# EAGLE library part M25P16-VMF6P (library SamacSys_Parts)
M25P16-VMF6P, Serial-SPI NOR Flash Memory 16Mbit, 15ns, 2.7 3.6 V, 16-Pin, SOIC W Source: Datasheet <https://componentsearchengine.com/Datasheets/1/M25P16-VMF6P.pdf>
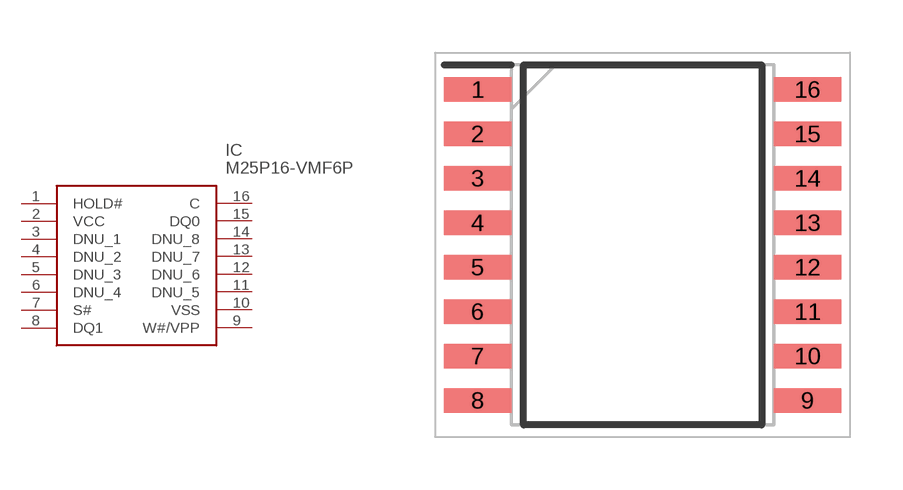
[diagram p0: symbol with the pads of SOIC127P1032X265-16N; footprint SOIC127P1032X265-16N]

Designator prefix IC

## M25P16-VMF6P (Description: M25P16-VMF6P, Serial-SPI NOR Flash Memory 16Mbit, 15ns, 2.7 3.6 V, 16-Pin, SOIC W; Height: 2.65mm; Manufacturer_Name: STMicroelectronics; Manufacturer_Part_Number: M25P16-VMF6P; Mouser_Part_Number: 511-M25P16-VMF6P)  [SOIC127P1032X265-16N]
1  HOLD#
2  VCC
3  DNU_1
4  DNU_2
5  DNU_3
6  DNU_4
7  S#
8  DQ1
9  W#/VPP
10  VSS
11  DNU_5
12  DNU_6
13  DNU_7
14  DNU_8
15  DQ0
16  C

## Footprint SOIC127P1032X265-16N (pad centres in mm)
M25P16_SO16W
smd 1.925 x 0.7: 1 -4.712,4.445; 2 -4.712,3.175; 3 -4.712,1.905; 4 -4.712,0.635; 5 -4.712,-0.635; 6 -4.712,-1.905; 7 -4.712,-3.175; 8 -4.712,-4.445; 9 4.712,-4.445; 10 4.712,-3.175; 11 4.712,-1.905; 12 4.712,-0.635; 13 4.712,0.635; 14 4.712,1.905; 15 4.712,3.175; 16 4.712,4.445